# Altium schematic symbol library SCH - ARM CORTEX - STM STM32G4A1KEUx.SchLib: 1 symbol
Pins are listed as number, name and electrical type; pins without a type are passive.

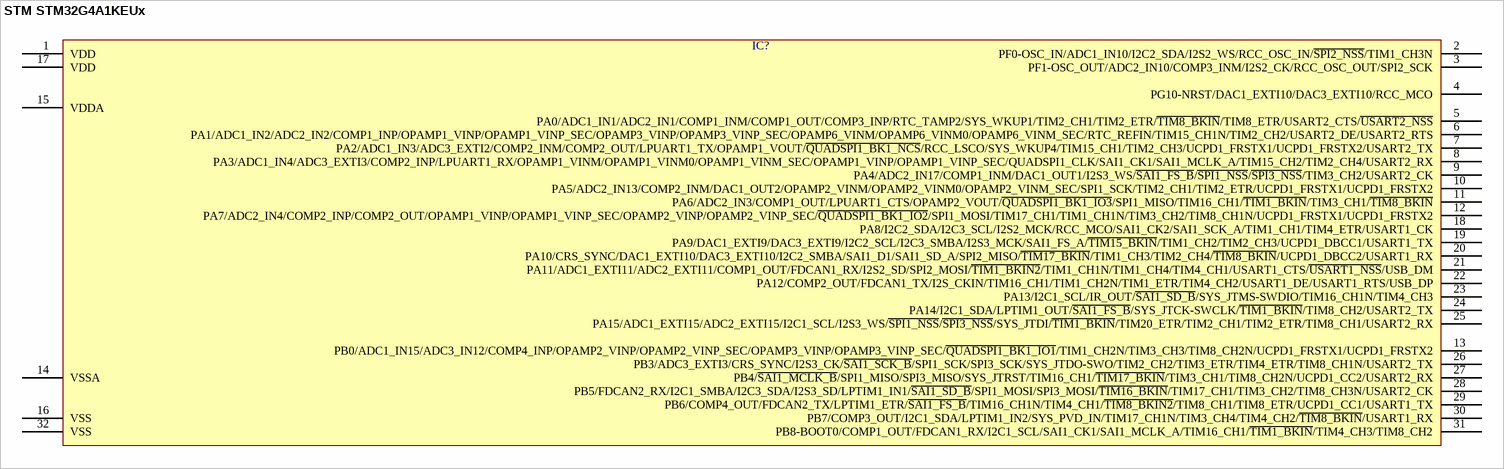
[diagram p0: symbol STM STM32G4A1KEUx]

## STM STM32G4A1KEUx
designator IC?  (value not drawn)
pins: 1 VDD, 2 PF0-OSC_IN/ADC1_IN10/I2C2_SDA/I2S2_WS/RCC_OSC_IN/~{SPI2_NSS}/TIM1_CH3N, 3 PF1-OSC_OUT/ADC2_IN10/COMP3_INM/I2S2_CK/RCC_OSC_OUT/SPI2_SCK, 4 PG10-NRST/DAC1_EXTI10/DAC3_EXTI10/RCC_MCO, 5 PA0/ADC1_IN1/ADC2_IN1/COMP1_INM/COMP1_OUT/COMP3_INP/RTC_TAMP2/SYS_WKUP1/TIM2_CH1/TIM2_ETR/~{TIM8_BKIN}/TIM8_ETR/USART2_CTS/~{USART2_NSS}, 6 PA1/ADC1_IN2/ADC2_IN2/COMP1_INP/OPAMP1_VINP/OPAMP1_VINP_SEC/OPAMP3_VINP/OPAMP3_VINP_SEC/OPAMP6_VINM/OPAMP6_VINM0/OPAMP6_VINM_SEC/RTC_REFIN/TIM15_CH1N/TIM2_CH2/USART2_DE/USART2_RTS, 7 PA2/ADC1_IN3/ADC3_EXTI2/COMP2_INM/COMP2_OUT/LPUART1_TX/OPAMP1_VOUT/~{QUADSPI1_BK1_NCS}/RCC_LSCO/SYS_WKUP4/TIM15_CH1/TIM2_CH3/UCPD1_FRSTX1/UCPD1_FRSTX2/USART2_TX, 8 PA3/ADC1_IN4/ADC3_EXTI3/COMP2_INP/LPUART1_RX/OPAMP1_VINM/OPAMP1_VINM0/OPAMP1_VINM_SEC/OPAMP1_VINP/OPAMP1_VINP_SEC/QUADSPI1_CLK/SAI1_CK1/SAI1_MCLK_A/TIM15_CH2/TIM2_CH4/USART2_RX, 9 PA4/ADC2_IN17/COMP1_INM/DAC1_OUT1/I2S3_WS/~{SAI1_FS_B}/~{SPI1_NSS}/~{SPI3_NSS}/TIM3_CH2/USART2_CK, 10 PA5/ADC2_IN13/COMP2_INM/DAC1_OUT2/OPAMP2_VINM/OPAMP2_VINM0/OPAMP2_VINM_SEC/SPI1_SCK/TIM2_CH1/TIM2_ETR/UCPD1_FRSTX1/UCPD1_FRSTX2, 11 PA6/ADC2_IN3/COMP1_OUT/LPUART1_CTS/OPAMP2_VOUT/~{QUADSPI1_BK1_IO3}/SPI1_MISO/TIM16_CH1/~{TIM1_BKIN}/TIM3_CH1/~{TIM8_BKIN}, 12 PA7/ADC2_IN4/COMP2_INP/COMP2_OUT/OPAMP1_VINP/OPAMP1_VINP_SEC/OPAMP2_VINP/OPAMP2_VINP_SEC/~{QUADSPI1_BK1_IO2}/SPI1_MOSI/TIM17_CH1/TIM1_CH1N/TIM3_CH2/TIM8_CH1N/UCPD1_FRSTX1/UCPD1_FRSTX2, 13 PB0/ADC1_IN15/ADC3_IN12/COMP4_INP/OPAMP2_VINP/OPAMP2_VINP_SEC/OPAMP3_VINP/OPAMP3_VINP_SEC/~{QUADSPI1_BK1_IO1}/TIM1_CH2N/TIM3_CH3/TIM8_CH2N/UCPD1_FRSTX1/UCPD1_FRSTX2, 14 VSSA, 15 VDDA, 16 VSS, 17 VDD, 18 PA8/I2C2_SDA/I2C3_SCL/I2S2_MCK/RCC_MCO/SAI1_CK2/SAI1_SCK_A/TIM1_CH1/TIM4_ETR/USART1_CK, 19 PA9/DAC1_EXTI9/DAC3_EXTI9/I2C2_SCL/I2C3_SMBA/I2S3_MCK/SAI1_FS_A/~{TIM15_BKIN}/TIM1_CH2/TIM2_CH3/UCPD1_DBCC1/USART1_TX, 20 PA10/CRS_SYNC/DAC1_EXTI10/DAC3_EXTI10/I2C2_SMBA/SAI1_D1/SAI1_SD_A/SPI2_MISO/~{TIM17_BKIN}/TIM1_CH3/TIM2_CH4/~{TIM8_BKIN}/UCPD1_DBCC2/USART1_RX, 21 PA11/ADC1_EXTI11/ADC2_EXTI11/COMP1_OUT/FDCAN1_RX/I2S2_SD/SPI2_MOSI/~{TIM1_BKIN2}/TIM1_CH1N/TIM1_CH4/TIM4_CH1/USART1_CTS/~{USART1_NSS}/USB_DM, 22 PA12/COMP2_OUT/FDCAN1_TX/I2S_CKIN/TIM16_CH1/TIM1_CH2N/TIM1_ETR/TIM4_CH2/USART1_DE/USART1_RTS/USB_DP, 23 PA13/I2C1_SCL/IR_OUT/~{SAI1_SD_B}/SYS_JTMS-SWDIO/TIM16_CH1N/TIM4_CH3, 24 PA14/I2C1_SDA/LPTIM1_OUT/~{SAI1_FS_B}/SYS_JTCK-SWCLK/~{TIM1_BKIN}/TIM8_CH2/USART2_TX, 25 PA15/ADC1_EXTI15/ADC2_EXTI15/I2C1_SCL/I2S3_WS/~{SPI1_NSS}/~{SPI3_NSS}/SYS_JTDI/~{TIM1_BKIN}/TIM20_ETR/TIM2_CH1/TIM2_ETR/TIM8_CH1/USART2_RX, 26 PB3/ADC3_EXTI3/CRS_SYNC/I2S3_CK/~{SAI1_SCK_B}/SPI1_SCK/SPI3_SCK/SYS_JTDO-SWO/TIM2_CH2/TIM3_ETR/TIM4_ETR/TIM8_CH1N/USART2_TX, 27 PB4/~{SAI1_MCLK_B}/SPI1_MISO/SPI3_MISO/SYS_JTRST/TIM16_CH1/~{TIM17_BKIN}/TIM3_CH1/TIM8_CH2N/UCPD1_CC2/USART2_RX, 28 PB5/FDCAN2_RX/I2C1_SMBA/I2C3_SDA/I2S3_SD/LPTIM1_IN1/~{SAI1_SD_B}/SPI1_MOSI/SPI3_MOSI/~{TIM16_BKIN}/TIM17_CH1/TIM3_CH2/TIM8_CH3N/USART2_CK, 29 PB6/COMP4_OUT/FDCAN2_TX/LPTIM1_ETR/~{SAI1_FS_B}/TIM16_CH1N/TIM4_CH1/~{TIM8_BKIN2}/TIM8_CH1/TIM8_ETR/UCPD1_CC1/USART1_TX, 30 PB7/COMP3_OUT/I2C1_SDA/LPTIM1_IN2/SYS_PVD_IN/TIM17_CH1N/TIM3_CH4/TIM4_CH2/~{TIM8_BKIN}/USART1_RX, 31 PB8-BOOT0/COMP1_OUT/FDCAN1_RX/I2C1_SCL/SAI1_CK1/SAI1_MCLK_A/TIM16_CH1/~{TIM1_BKIN}/TIM4_CH3/TIM8_CH2, 32 VSS